# Altium schematic symbol library Misc.SchLib: 2 symbols
Pins are listed as number, name and electrical type; pins without a type are passive.

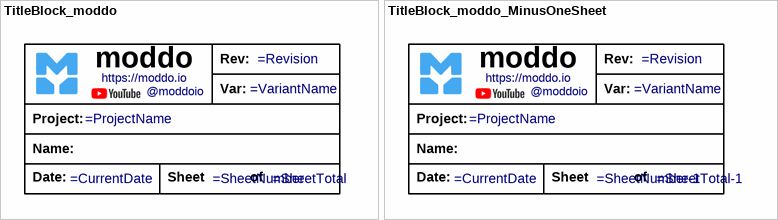
[diagram p0: symbols TitleBlock_moddo to TitleBlock_moddo_MinusOneSheet]

## TitleBlock_moddo
designator ?  (graphical)
text: Rev:; moddo; https://moddo.io; Var:; @moddoio; Project:; Name:; Date:; Sheet; of

## TitleBlock_moddo_MinusOneSheet
designator ?  (graphical)
text: Rev:; moddo; https://moddo.io; Var:; @moddoio; Project:; Name:; Date:; Sheet; of